# Altium schematic symbol library SCH - DRIVER - LED - TI LM34926NGU.SchLib: 1 symbol
Pins are listed as number, name and electrical type; pins without a type are passive.

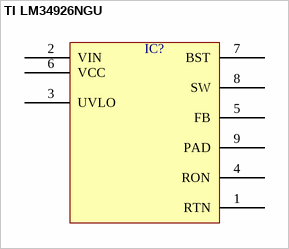
[diagram p0: symbol TI LM34926NGU]

## TI LM34926NGU
designator IC?  (value not drawn)
pins: 1 RTN, 2 VIN, 3 UVLO, 4 RON, 5 FB, 6 VCC, 7 BST, 8 SW, 9 PAD